# EAGLE library part 634008137221 (library Wurth_Elektronik_Electromechanic_Input-Output_Connectors_rev16a)
WR-MJ Horizontal Plastic SMT 8P8C Modular Jack Tab Down, 8 Pins=>Code : Con_I-O_MJ-H_Plastic_Down_634008137221 <http://katalog.we-online.de/media/images/eican/Con_I-O_MJ-H_Plastic_Down_634008137221_pf2.jpg> Details see: http://katalog.we-online.de/en/em/634_008_137_221 Created 2014-07-10, Karrer Zheng 2014 (C) Würth Elektronik
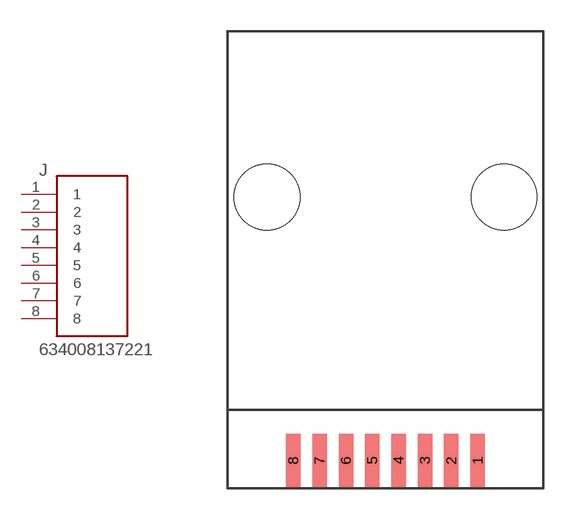
[diagram p140: symbol with the pads of 634008137221; footprint 634008137221]

Designator prefix J

## 634008137221  [634008137221]
1  1  pas
2  2  pas
3  3  pas
4  4  pas
5  5  pas
6  6  pas
7  7  pas
8  8  pas

## Footprint 634008137221 (pad centres in mm)
WR-MJ Horizontal Plastic SMT 8P8C Modular Jack Tab Down, 8 Pins
smd 0.7 x 2.54: 1 4.445,0; 2 3.175,0; 3 1.905,0; 4 0.635,0; 5 -0.635,0; 6 -1.905,0; 7 -3.175,0; 8 -4.445,0
hole 3.17 at 5.715,12.7
hole 3.17 at -5.715,12.7